# EAGLE library part DIR9001 (library toslink)
96-kHz, 24-Bit Digital Audio Interface Receiver
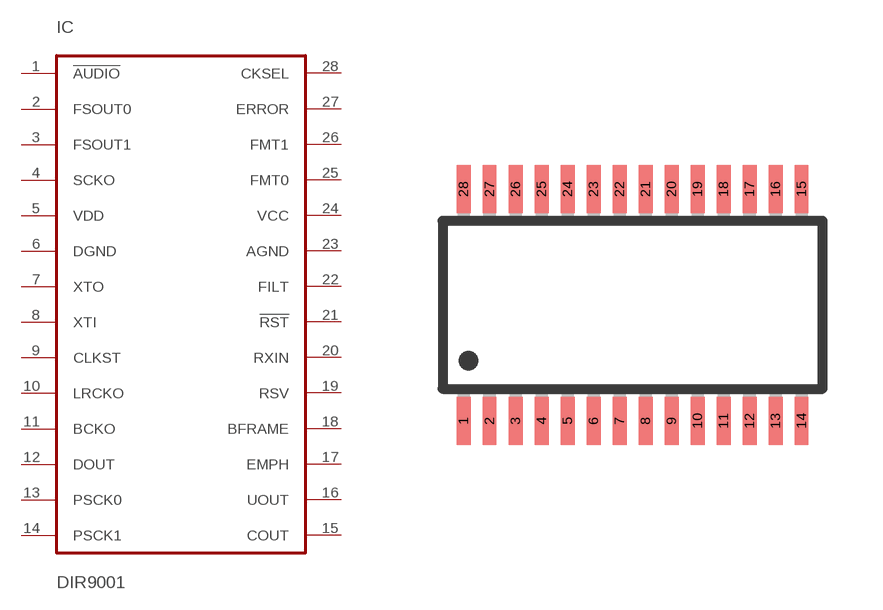
[diagram p2: symbol with the pads of TSSOP28; footprint TSSOP28]

Designator prefix IC

## DIR9001  [TSSOP28]
1  !AUDIO  out
2  FSOUT0  out
3  FSOUT1  out
4  SCKO  out
5  VDD  pwr
6  DGND  pwr
7  XTO  out
8  XTI  in
9  CLKST  out
10  LRCKO  out
11  BCKO  out
12  DOUT  out
13  PSCK0  in
14  PSCK1  in
15  COUT  out
16  UOUT  out
17  EMPH  out
18  BFRAME  out
19  RSV  in
20  RXIN  in
21  !RST  in
22  FILT
23  AGND  pwr
24  VCC  pwr
25  FMT0  in
26  FMT1  in
27  ERROR  out
28  CKSEL  in

## Footprint TSSOP28 (pad centres in mm)
28-Lead TSSOP Package RU-28
smd 0.35 x 1.2: 1 -4.225,-2.9; 2 -3.575,-2.9; 3 -2.925,-2.9; 4 -2.275,-2.9; 5 -1.625,-2.9; 6 -0.975,-2.9; 7 -0.325,-2.9; 8 0.325,-2.9; 9 0.975,-2.9; 10 1.625,-2.9; 11 2.275,-2.9; 12 2.925,-2.9; 13 3.575,-2.9; 14 4.225,-2.9; 15 4.225,2.9; 16 3.575,2.9; 17 2.925,2.9; 18 2.275,2.9; 19 1.625,2.9; 20 0.975,2.9; 21 0.325,2.9; 22 -0.325,2.9; 23 -0.975,2.9; 24 -1.625,2.9; 25 -2.275,2.9; 26 -2.925,2.9; 27 -3.575,2.9; 28 -4.225,2.9